# Altium schematic symbol library GRM31C5C2A104JA01L.SchLib: 1 symbol
Pins are listed as number, name and electrical type; pins without a type are passive.

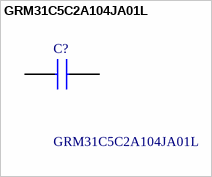
[diagram p0: symbol GRM31C5C2A104JA01L]

## GRM31C5C2A104JA01L
designator C?
Capacitor GRM31_0.20 L=3.2mm W=1.6mm T=1.6mm; Manufacturer_Name: Murata Electronics; Geometry.Height: 1.8mm; Mouser Part Number: 81-GRM31C5C2A104JA1L; Mouser Price/Stock: https://www.mouser.co.uk/ProductDetail/Murata-Electronics/GRM31C5C2A104JA01L?qs=8cKuZ6Ok2lZMf6s81dBV4Q%3D%3D; Manufacturer_Part_Number: GRM31C5C2A104JA01L; Datasheet Link: https://search.murata.co.jp/Ceramy/image/img/A01X/G101/ENG/GRM31C5C2A104JA01-01A.pdf
footprint CAPC3216X180N
pins: 1, 2